# Altium footprint library TI Interface ESD EMI Protection.PcbLib: 54 footprints (part 2 of 4)
Each footprint in its own frame and in the unit in brackets; x right, y up, seen from the top. Pads: shape width x height; smd on the part's side, far side on the other; paste and mask are expansions set on the pad; w line width, h text height; cw(c..) or ccw(c..) is an arc to the next point about the centre after c.
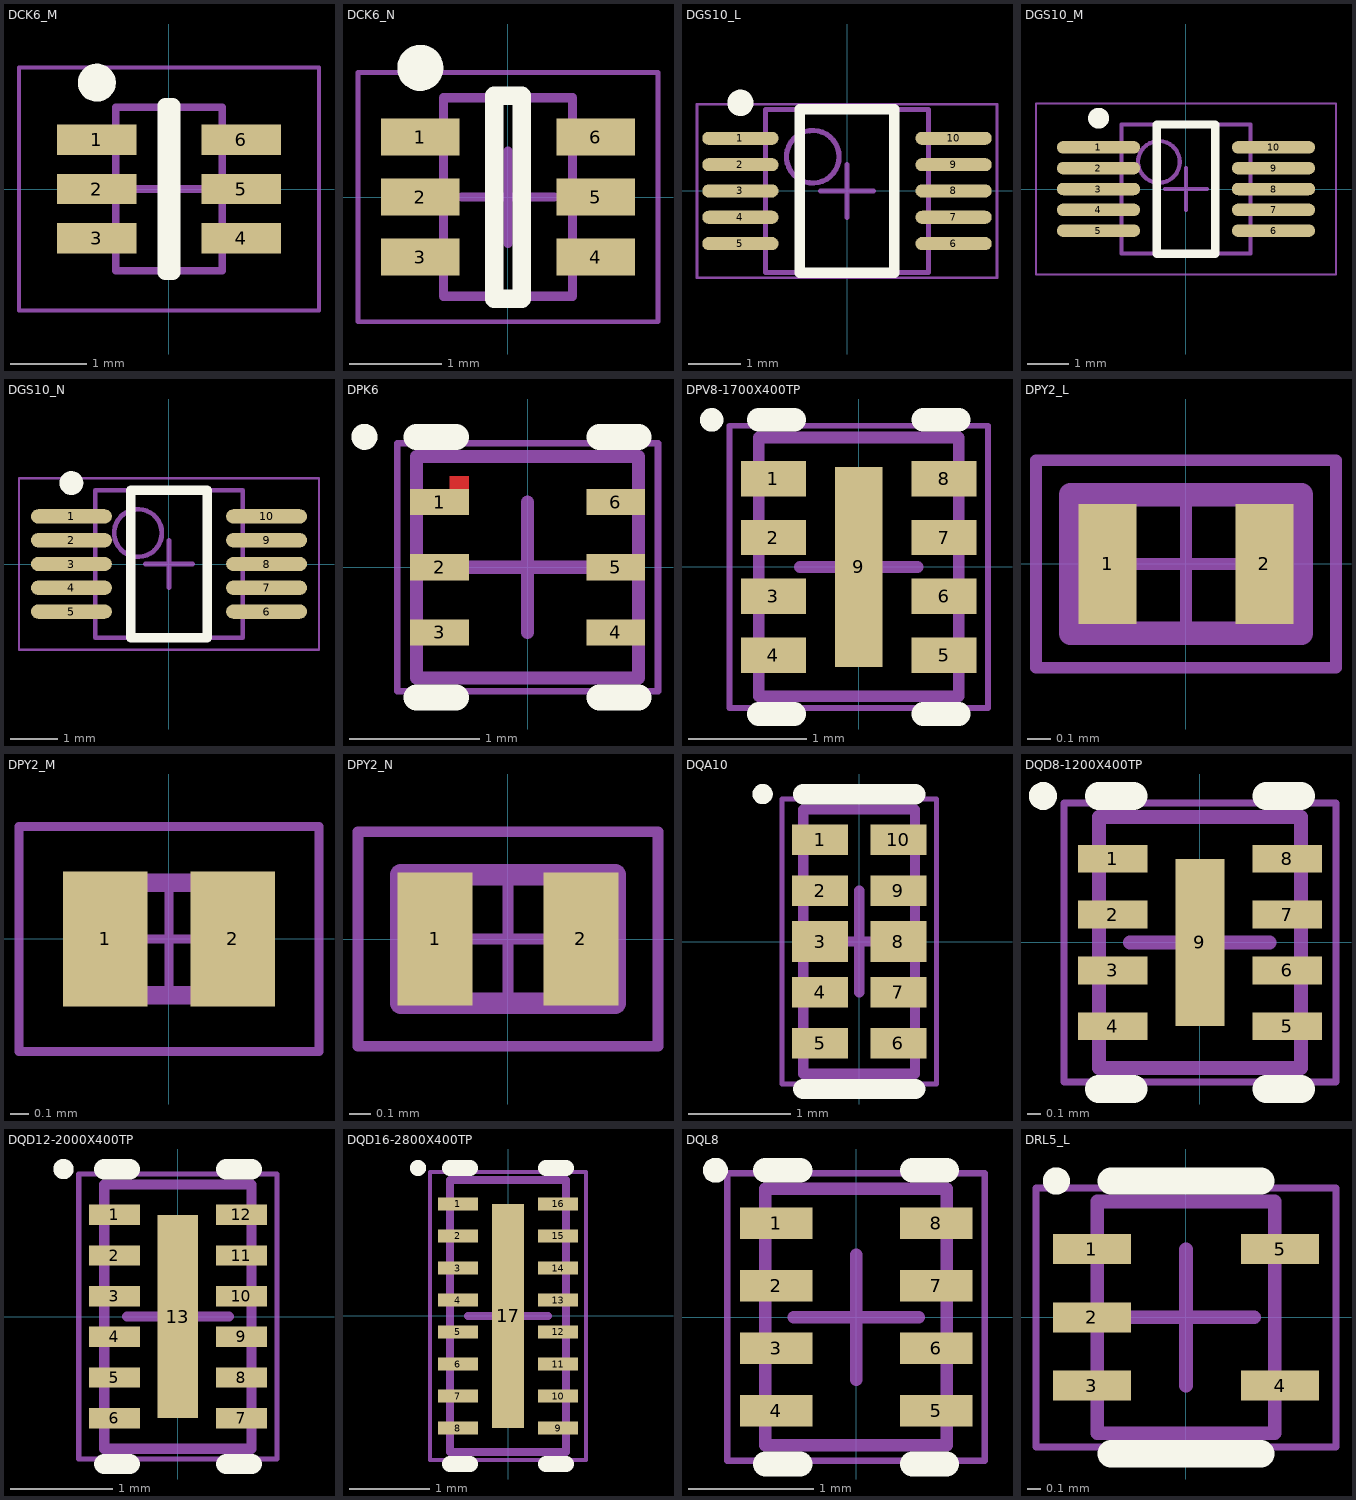
[diagram p1: the footprints below, top view; thin cyan lines are the x and y axes]

## DCK6_M [mm] "SOT23, 6-Leads, Body 2x1.3mm, Pitch 0.65mm, Lead Span 2.1mm, IPC Low Density"
height 1.1
pads (6):
  rect 1.05x0.4 smd: 1(-0.95,0.65) 2(-0.95,0) 3(-0.95,-0.65) 4(0.95,-0.65) 5(0.95,0) 6(0.95,0.65)
Top Overlay:
  circle w0.25: c-0.95,1.4 r0.125
  lines w0.2: -0.05,-1.1 -0.05,1.1 0.05,1.1 0.05,-1.1 -0.05,-1.1
Mechanical 13:
  lines w0.1: -0.7,-1.075 0.7,-1.075 0.7,1.075 -0.7,1.075 -0.7,-1.075
Mechanical 15:
  lines w0.05: -1.975,-1.6 1.975,-1.6 1.975,1.6 -1.975,1.6 -1.975,-1.6
  lines w0.1: -0.5,0 0.5,0 ; 0,-0.5 0,0.5
3D body: height 1.1, standoff 0, extent -0.7,-1.075 0.7,1.075

## DCK6_N [mm] "SOT23, 6-Leads, Body 2x1.3mm, Pitch 0.65mm, Lead Span 2.1mm, IPC Medium Density"
height 1.1
pads (6):
  rect 0.85x0.4 smd: 1(-0.95,0.65) 2(-0.95,0) 3(-0.95,-0.65) 4(0.95,-0.65) 5(0.95,0) 6(0.95,0.65)
Top Overlay:
  circle w0.25: c-0.95,1.4 r0.125
  lines w0.2: -0.15,-1.1 -0.15,1.1 0.15,1.1 0.15,-1.1 -0.15,-1.1
Mechanical 13:
  lines w0.1: -0.7,-1.075 0.7,-1.075 0.7,1.075 -0.7,1.075 -0.7,-1.075
Mechanical 15:
  lines w0.05: -1.625,-1.35 1.625,-1.35 1.625,1.35 -1.625,1.35 -1.625,-1.35
  lines w0.1: -0.5,0 0.5,0 ; 0,-0.5 0,0.5
3D body: height 1.1, standoff 0, extent -0.7,-1.075 0.7,1.075

## DGS10_L [mm] "TSSOP, 10-Leads, Body 3x3mm, Pitch 0.5mm, IPC High Density"
height 1.1
pads (10):
  oval 1.45x0.25 smd: 1(-2.025,1) 2(-2.025,0.5) 3(-2.025,0) 4(-2.025,-0.5) 5(-2.025,-1) 6(2.025,-1) 7(2.025,-0.5) 8(2.025,0) 9(2.025,0.5) 10(2.025,1)
Top Overlay:
  circle w0.25: c-2.025,1.675 r0.125
  lines w0.2: -0.9,-1.55 0.9,-1.55 0.9,1.55 -0.9,1.55 -0.9,-1.55
Mechanical 13:
  circle w0.1: c-0.65,0.65 r0.5
  lines w0.1: -1.55,-1.55 1.55,-1.55 1.55,1.55 -1.55,1.55 -1.55,-1.55
Mechanical 15:
  lines w0.05: -2.85,-1.65 2.85,-1.65 2.85,1.65 -2.85,1.65 -2.85,-1.65
  lines w0.1: -0.5,0 0.5,0 ; 0,-0.5 0,0.5
3D body: height 1.1, standoff 0.05, extent -1.55,-1.55 1.55,1.55

## DGS10_M [mm] "TSSOP, 10-Leads, Body 3x3mm, Pitch 0.5mm, IPC Low Density"
height 1.1
pads (10):
  oval 2x0.3 smd: 1(-2.1,1) 2(-2.1,0.5) 3(-2.1,0) 4(-2.1,-0.5) 5(-2.1,-1) 6(2.1,-1) 7(2.1,-0.5) 8(2.1,0) 9(2.1,0.5) 10(2.1,1)
Top Overlay:
  circle w0.25: c-2.1,1.7 r0.125
  lines w0.2: -0.7,-1.55 -0.7,1.55 0.7,1.55 0.7,-1.55 -0.7,-1.55
Mechanical 13:
  circle w0.1: c-0.65,0.65 r0.5
  lines w0.1: -1.55,-1.55 -1.55,1.55 1.55,1.55 1.55,-1.55 -1.55,-1.55
Mechanical 15:
  lines w0.05: -3.6,-2.05 -3.6,2.05 3.6,2.05 3.6,-2.05 -3.6,-2.05
  lines w0.1: -0.5,0 0.5,0 ; 0,-0.5 0,0.5
3D body: height 1.1, standoff 0.05, extent -1.55,-1.55 1.55,1.55

## DGS10_N [mm] "TSSOP, 10-Leads, Body 3x3mm, Pitch 0.5mm, IPC Medium Density"
height 1.1
pads (10):
  oval 1.7x0.3 smd: 1(-2.05,1) 2(-2.05,0.5) 3(-2.05,0) 4(-2.05,-0.5) 5(-2.05,-1) 6(2.05,-1) 7(2.05,-0.5) 8(2.05,0) 9(2.05,0.5) 10(2.05,1)
Top Overlay:
  circle w0.25: c-2.05,1.7 r0.125
  lines w0.2: -0.8,-1.55 -0.8,1.55 0.8,1.55 0.8,-1.55 -0.8,-1.55
Mechanical 13:
  circle w0.1: c-0.65,0.65 r0.5
  lines w0.1: -1.55,-1.55 -1.55,1.55 1.55,1.55 1.55,-1.55 -1.55,-1.55
Mechanical 15:
  lines w0.05: -3.15,-1.8 -3.15,1.8 3.15,1.8 3.15,-1.8 -3.15,-1.8
  lines w0.1: -0.5,0 0.5,0 ; 0,-0.5 0,0.5
3D body: height 1.1, standoff 0.05, extent -1.55,-1.55 1.55,1.55

## DPK6 [mm] "SON, 6-Leads, Body 1.6x1.6mm, Pitch 0.5mm, TI Recommended"
height 0.6
pads (6):
  rect 0.45x0.2 smd paste+0 mask+0.05: 1(-0.675,0.5) 2(-0.675,0) 3(-0.675,-0.5) 4(0.675,-0.5) 5(0.675,0) 6(0.675,0.5)
Top Layer:
  rectangle: -0.6,0.6 -0.45,0.7
Top Overlay:
  circle w0.1: c-1.25,1 r0.05
  lines w0.2: -0.85,-1 -0.55,-1 ; -0.85,1 -0.55,1 ; 0.55,-1 0.85,-1 ; 0.55,1 0.85,1
Mechanical 13:
  lines w0.1: -0.85,-0.85 -0.85,0.85 0.85,0.85 0.85,-0.85 -0.85,-0.85
Mechanical 15:
  lines w0.05: -1,-0.95 -1,0.95 1,0.95 1,-0.95 -1,-0.95
  lines w0.1: -0.5,0 0.5,0 ; 0,-0.5 0,0.5
3D body: height 0.6, standoff 0, extent -0.85,-0.85 0.85,0.85

## DPV8-1700X400TP [mm] "SON, 8-Leads, Body 1.6x2.1mm, Pitch 0.5mm, Thermal Pad 1.7x0.4mm"
height 0.65
pads (9):
  rect 0.55x0.3 smd paste-0.025 mask+0.07: 1(-0.725,0.75) 2(-0.725,0.25) 3(-0.725,-0.25) 4(-0.725,-0.75) 5(0.725,-0.75) 6(0.725,-0.25) 7(0.725,0.25) 8(0.725,0.75)
  rect 0.4x1.7 smd paste-0.2 mask+0.07: 9(0,0)
Top Overlay:
  circle w0.1: c-1.25,1.25 r0.05
  lines w0.2: -0.85,-1.25 -0.55,-1.25 ; -0.85,1.25 -0.55,1.25 ; 0.55,-1.25 0.85,-1.25 ; 0.55,1.25 0.85,1.25
Top Paste:
  rectangle: -0.15,-0.2 0.15,0.2
  rectangle: -0.15,0.4 0.15,0.8
  rectangle: -0.15,-0.8 0.15,-0.4
Mechanical 13:
  lines w0.1: -0.85,-1.1 0.85,-1.1 0.85,1.1 -0.85,1.1 -0.85,-1.1
Mechanical 15:
  lines w0.05: -1.1,-1.2 1.1,-1.2 1.1,1.2 -1.1,1.2 -1.1,-1.2
  lines w0.1: -0.5,0 0.5,0 ; 0,-0.5 0,0.5
3D body: height 0.65, standoff 0, extent -0.85,-1.1 0.85,1.1

## DPY2_L [mm] "DFN, 2-Leads, Body 1.0x0.6x0.4mm, IPC High Density"
height 0.4
pads (2):
  rect 0.25x0.52 smd: 1(-0.34,0) 2(0.34,0)
Mechanical 13:
  lines w0.1: -0.5,-0.3 0.5,-0.3 0.5,0.3 -0.5,0.3 -0.5,-0.3
Mechanical 15:
  lines w0.05: -0.3,0 0.3,0 ; 0,-0.3 0,0.3 ; -0.65,-0.45 0.65,-0.45 0.65,0.45 -0.65,0.45 -0.65,-0.45
3D body: height 0.4, standoff 0, extent -0.5,-0.3 0.5,0.3

## DPY2_M [mm] "DFN, 2-Leads, Body 1.0x0.6x0.4mm, IPC Low Density"
height 0.4
pads (2):
  rect 0.45x0.72 smd: 1(-0.34,0) 2(0.34,0)
Mechanical 13:
  lines w0.1: -0.5,-0.3 -0.5,0.3 0.5,0.3 0.5,-0.3 -0.5,-0.3
Mechanical 15:
  lines w0.05: -0.3,0 0.3,0 ; 0,-0.3 0,0.3 ; -0.8,-0.6 -0.8,0.6 0.8,0.6 0.8,-0.6 -0.8,-0.6
3D body: height 0.4, standoff 0, extent -0.5,-0.3 0.5,0.3

## DPY2_N [mm] "DFN, 2-Leads, Body 1.0x0.6x0.4mm, IPC Medium Density"
height 0.4
pads (2):
  rect 0.35x0.62 smd: 1(-0.34,0) 2(0.34,0)
Mechanical 13:
  lines w0.1: -0.5,-0.3 0.5,-0.3 0.5,0.3 -0.5,0.3 -0.5,-0.3
Mechanical 15:
  lines w0.05: -0.3,0 0.3,0 ; 0,-0.3 0,0.3 ; -0.7,-0.5 0.7,-0.5 0.7,0.5 -0.7,0.5 -0.7,-0.5
3D body: height 0.4, standoff 0, extent -0.5,-0.3 0.5,0.3

## DQA10 [mm] "SON, 10-Leads, Body 1x2.5mm, Pitch 0.5mm, TI Recommended"
height 0.55
pads (10):
  rect 0.55x0.3 smd paste+0 mask+0.05: 1(-0.385,1) 2(-0.385,0.5) 4(-0.385,-0.5) 5(-0.385,-1) 6(0.385,-1) 7(0.385,-0.5) 9(0.385,0.5) 10(0.385,1)
  rect 0.55x0.4 smd paste+0 mask+0.05: 3(-0.385,0) 8(0.385,0)
Top Overlay:
  circle w0.1: c-0.95,1.45 r0.05
  lines w0.2: -0.55,-1.45 0.55,-1.45 ; -0.55,1.45 0.55,1.45
Mechanical 13:
  lines w0.1: -0.55,-1.3 0.55,-1.3 0.55,1.3 -0.55,1.3 -0.55,-1.3
Mechanical 15:
  lines w0.05: -0.76,-1.4 0.76,-1.4 0.76,1.4 -0.76,1.4 -0.76,-1.4
  lines w0.1: -0.5,0 0.5,0 ; 0,-0.5 0,0.5
3D body: height 0.55, standoff 0, extent -0.55,-1.3 0.55,1.3

## DQD8-1200X400TP [mm] "SON, 8-Leads, Body 1.35x1.7mm, Pitch 0.4mm, Thermal Pad 1.2x0.4mm, TI Recommended"
height 0.8
pads (9):
  rect 0.5x0.2 smd paste+0 mask+0.05: 1(-0.625,0.6) 2(-0.625,0.2) 3(-0.625,-0.2) 4(-0.625,-0.6) 5(0.625,-0.6) 6(0.625,-0.2) 7(0.625,0.2) 8(0.625,0.6)
  rect 0.35x1.2 smd paste-0.175 mask+0.05: 9(0,0)
Top Overlay:
  circle w0.1: c-1.125,1.05 r0.05
  lines w0.2: -0.725,-1.05 -0.475,-1.05 ; -0.725,1.05 -0.475,1.05 ; 0.475,-1.05 0.725,-1.05 ; 0.475,1.05 0.725,1.05
Top Paste:
  region: 0.15,-0.05 -0.15,-0.05 -0.15,-0.55 0.15,-0.55
  rectangle: -0.15,0.05 0.15,0.55
Mechanical 13:
  lines w0.1: -0.725,-0.9 -0.725,0.9 0.725,0.9 0.725,-0.9 -0.725,-0.9
Mechanical 15:
  lines w0.05: -0.975,-1 -0.975,1 0.975,1 0.975,-1 -0.975,-1
  lines w0.1: -0.5,0 0.5,0 ; 0,-0.5 0,0.5
3D body: height 0.8, standoff 0, extent -0.725,-0.9 0.725,0.9

## DQD12-2000X400TP [mm] "SON, 12-Leads, Body 1.35x2.5mm, Pitch 0.4mm, Thermal Pad 2x0.4mm, TI Recommended"
height 0.8
pads (13):
  rect 0.5x0.2 smd paste+0 mask+0.05: 1(-0.625,1) 2(-0.625,0.6) 3(-0.625,0.2) 4(-0.625,-0.2) 5(-0.625,-0.6) 6(-0.625,-1) 7(0.625,-1) 8(0.625,-0.6) 9(0.625,-0.2) 10(0.625,0.2) 11(0.625,0.6) 12(0.625,1)
  rect 0.4x2 smd paste-0.2 mask+0.05: 13(0,0)
Top Overlay:
  circle w0.1: c-1.125,1.45 r0.05
  lines w0.2: -0.725,-1.45 -0.475,-1.45 ; -0.725,1.45 -0.475,1.45 ; 0.475,-1.45 0.725,-1.45 ; 0.475,1.45 0.725,1.45
Top Paste:
  region: 0.15,-0.405 -0.15,-0.405 -0.15,-0.955 0.15,-0.955
  rectangle: -0.15,0.405 0.15,0.955
  rectangle: -0.15,-0.275 0.15,0.275
Mechanical 13:
  lines w0.1: -0.725,-1.3 -0.725,1.3 0.725,1.3 0.725,-1.3 -0.725,-1.3
Mechanical 15:
  lines w0.05: -0.975,-1.4 -0.975,1.4 0.975,1.4 0.975,-1.4 -0.975,-1.4
  lines w0.1: -0.5,0 0.5,0 ; 0,-0.5 0,0.5
3D body: height 0.8, standoff 0, extent -0.725,-1.3 0.725,1.3

## DQD16-2800X400TP [mm] "SON, 16-Leads, Body 1.35x3.3mm, Pitch 0.4mm, Thermal Pad 2.8x0.4mm, TI Recommended"
height 0.8
pads (17):
  rect 0.5x0.16 smd paste+0 mask+0.05: 1(-0.625,1.4) 2(-0.625,1) 3(-0.625,0.6) 4(-0.625,0.2) 5(-0.625,-0.2) 6(-0.625,-0.6) 7(-0.625,-1) 8(-0.625,-1.4) 9(0.625,-1.4) 10(0.625,-1) 11(0.625,-0.6) 12(0.625,-0.2) 13(0.625,0.2) 14(0.625,0.6) 15(0.625,1) 16(0.625,1.4)
  rect 0.4x2.8 smd paste-1.4 mask+0.05: 17(0,0)
Top Overlay:
  circle w0.1: c-1.125,1.85 r0.05
  lines w0.2: -0.725,-1.85 -0.475,-1.85 ; -0.725,1.85 -0.475,1.85 ; 0.475,-1.85 0.725,-1.85 ; 0.475,1.85 0.725,1.85
Top Paste:
  rectangle: -0.15,0.75 0.15,1.35
  region: 0.15,-0.75 -0.15,-0.75 -0.15,-1.35 0.15,-1.35
  region: 0.15,-0.05 -0.15,-0.05 -0.15,-0.65 0.15,-0.65
  rectangle: -0.15,0.05 0.15,0.65
Mechanical 13:
  lines w0.1: -0.725,-1.7 -0.725,1.7 0.725,1.7 0.725,-1.7 -0.725,-1.7
Mechanical 15:
  lines w0.05: -0.975,-1.8 -0.975,1.8 0.975,1.8 0.975,-1.8 -0.975,-1.8
  lines w0.1: -0.5,0 0.5,0 ; 0,-0.5 0,0.5
3D body: height 0.8, standoff 0, extent -0.725,-1.7 0.725,1.7

## DQL8 [mm] "SON, 8-Leads, Body 1.4x2mm, Pitch 0.5mm, TI Recommended"
height 0.4
pads (8):
  rect 0.58x0.25 smd paste-0.125 mask+0.05: 1(-0.64,0.75) 2(-0.64,0.25) 3(-0.64,-0.25) 4(-0.64,-0.75) 5(0.64,-0.75) 6(0.64,-0.25) 7(0.64,0.25) 8(0.64,0.75)
Top Overlay:
  circle w0.1: c-1.125,1.175 r0.05
  lines w0.2: -0.725,-1.175 -0.45,-1.175 ; -0.725,1.175 -0.45,1.175 ; 0.45,-1.175 0.725,-1.175 ; 0.45,1.175 0.725,1.175
Top Paste:
  rectangle: -0.905,0.625 -0.375,0.875
  rectangle: -0.905,0.125 -0.375,0.375
  rectangle: 0.375,0.625 0.905,0.875
  rectangle: 0.375,0.125 0.905,0.375
  region: 0.905,-0.625 0.375,-0.625 0.375,-0.875 0.905,-0.875
  region: 0.905,-0.125 0.375,-0.125 0.375,-0.375 0.905,-0.375
  region: -0.375,-0.625 -0.905,-0.625 -0.905,-0.875 -0.375,-0.875
  region: -0.375,-0.125 -0.905,-0.125 -0.905,-0.375 -0.375,-0.375
Mechanical 13:
  lines w0.1: -0.725,-1.025 -0.725,1.025 0.725,1.025 0.725,-1.025 -0.725,-1.025
Mechanical 15:
  lines w0.05: -1.03,-1.15 -1.03,1.15 1.03,1.15 1.03,-1.15 -1.03,-1.15
  lines w0.1: -0.5,0 0.5,0 ; 0,-0.5 0,0.5
3D body: height 0.4, standoff 0, extent -0.725,-1.025 0.725,1.025

## DRL5_L [mm] "SOTFL, 5-Flat Leads, Body 1.2x1.6x0.6mm, Pitch 0.5mm, IPC High Density"
height 0.6
pads (5):
  rect 0.57x0.22 smd: 1(-0.69,0.5) 2(-0.69,0) 3(-0.69,-0.5) 4(0.69,-0.5) 5(0.69,0.5)
Top Overlay:
  circle w0.1: c-0.95,1 r0.05
  lines w0.2: -0.55,-1 0.55,-1 ; -0.55,1 0.55,1
Mechanical 13:
  lines w0.1: -0.65,-0.85 -0.65,0.85 0.65,0.85 0.65,-0.85 -0.65,-0.85
Mechanical 15:
  lines w0.05: -1.1,-0.95 -1.1,0.95 1.1,0.95 1.1,-0.95 -1.1,-0.95
  lines w0.1: -0.5,0 0.5,0 ; 0,-0.5 0,0.5
3D body: height 0.6, standoff 0, extent -0.65,-0.85 0.65,0.85